# EAGLE library part STM32F303RCT6 (library stmf3)
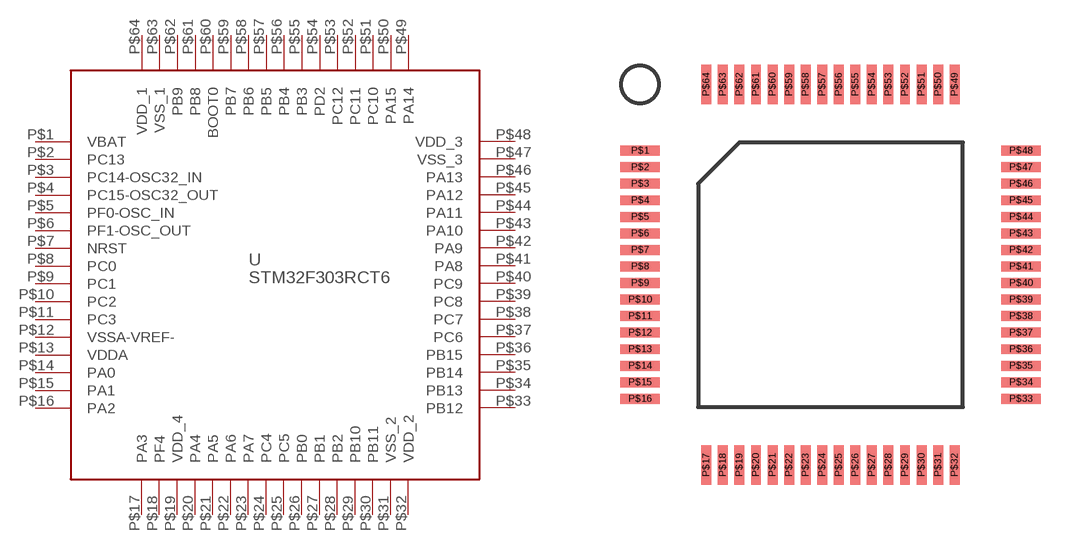
[diagram p0: symbol with the pads of LQFP64; footprint LQFP64]

Designator prefix -

## STM32F303RCT6  [LQFP64]
P$1  VBAT
P$2  PC13
P$3  PC14-OSC32_IN
P$4  PC15-OSC32_OUT
P$5  PF0-OSC_IN
P$6  PF1-OSC_OUT
P$7  NRST
P$8  PC0
P$9  PC1
P$10  PC2
P$11  PC3
P$12  VSSA-VREF-
P$13  VDDA
P$14  PA0
P$15  PA1
P$16  PA2
P$17  PA3
P$18  PF4
P$19  VDD_4
P$20  PA4
P$21  PA5
P$22  PA6
P$23  PA7
P$24  PC4
P$25  PC5
P$26  PB0
P$27  PB1
P$28  PB2
P$29  PB10
P$30  PB11
P$31  VSS_2
P$32  VDD_2
P$33  PB12
P$34  PB13
P$35  PB14
P$36  PB15
P$37  PC6
P$38  PC7
P$39  PC8
P$40  PC9
P$41  PA8
P$42  PA9
P$43  PA10
P$44  PA11
P$45  PA12
P$46  PA13
P$47  VSS_3
P$48  VDD_3
P$49  PA14
P$50  PA15
P$51  PC10
P$52  PC11
P$53  PC12
P$54  PD2
P$55  PB3
P$56  PB4
P$57  PB5
P$58  PB6
P$59  PB7
P$60  BOOT0
P$61  PB8
P$62  PB9
P$63  VSS_1
P$64  VDD_1

## Footprint LQFP64 (pad centres in mm)
smd 1.2 x 0.3: P$1 -0.25,0; P$2 -0.25,-0.5; P$3 -0.25,-1; P$4 -0.25,-1.5; P$5 -0.25,-2; P$6 -0.25,-2.5; P$7 -0.25,-3; P$8 -0.25,-3.5; P$9 -0.25,-4; P$10 -0.25,-4.5; P$11 -0.25,-5; P$12 -0.25,-5.5; P$13 -0.25,-6; P$14 -0.25,-6.5; P$15 -0.25,-7; P$16 -0.25,-7.5; P$33 11.25,-7.5; P$34 11.25,-7; P$35 11.25,-6.5; P$36 11.25,-6; P$37 11.25,-5.5; P$38 11.25,-5; P$39 11.25,-4.5; P$40 11.25,-4; P$41 11.25,-3.5; P$42 11.25,-3; P$43 11.25,-2.5; P$44 11.25,-2; P$45 11.25,-1.5; P$46 11.25,-1; P$47 11.25,-0.5; P$48 11.25,0
smd 0.3 x 1.2: P$17 1.75,-9.5; P$18 2.25,-9.5; P$19 2.75,-9.5; P$20 3.25,-9.5; P$21 3.75,-9.5; P$22 4.25,-9.5; P$23 4.75,-9.5; P$24 5.25,-9.5; P$25 5.75,-9.5; P$26 6.25,-9.5; P$27 6.75,-9.5; P$28 7.25,-9.5; P$29 7.75,-9.5; P$30 8.25,-9.5; P$31 8.75,-9.5; P$32 9.25,-9.5; P$49 9.25,2; P$50 8.75,2; P$51 8.25,2; P$52 7.75,2; P$53 7.25,2; P$54 6.75,2; P$55 6.25,2; P$56 5.75,2; P$57 5.25,2; P$58 4.75,2; P$59 4.25,2; P$60 3.75,2; P$61 3.25,2; P$62 2.75,2; P$63 2.25,2; P$64 1.75,2